# Altium integrated library TI Amplifiers and Linear Operational Amplifier Precision Amplifier Part Two.IntLib: 2300 symbols (part 2 of 81)
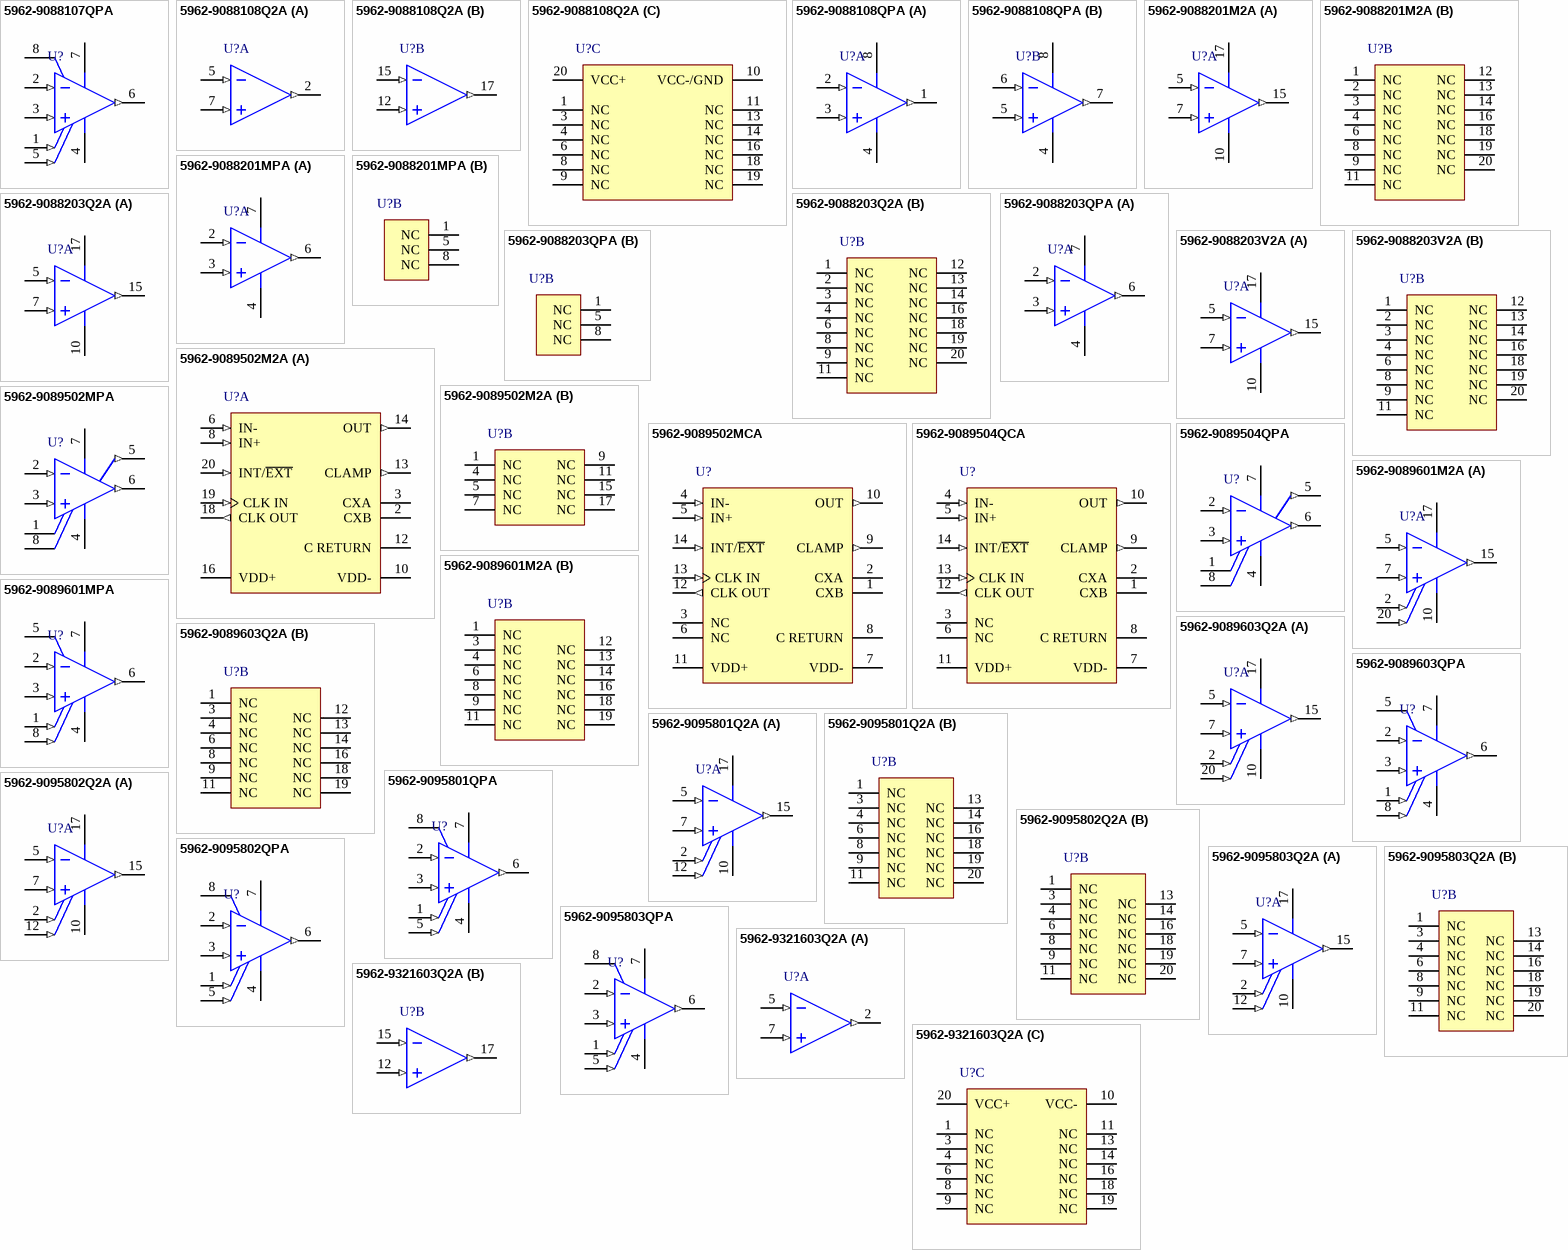
[diagram p137: symbols 5962-9088107QPA to 5962-9321603Q2A]

## 5962-9088201MPA
designator U?
Low Noise Precision Advanced LinCMOS(TM) Single Operational Amplifier, 4.6 to 16 V, -55 to 125 degC, 8-pin DIP (JG8); Manufacturer: Texas Instruments; PartNumber: 5962-9088201MPA; CMRR(Min)(dB): 90; GBW(Typ)(MHz): 1.9; IIB(Max)(pA): 60; Iq per channel(Max)(mA): 1.5; Number of Channels: 1; Offset Drift(Typ)(uV/C): 0.5; Packing: TUBE; Rating: Military; Slew Rate(Typ)(V/us): 2.7; Sub Family: Low Noise Amp (<=10nV/rtHz), Low Offset Voltage Amplifier (<=500uV), Precision Amplifier; Total Supply Voltage(Max)(+5V is 5, +/-5V is 10): 16; Total Supply Voltage(Min)(+5V is 5, +/-5V is 10): 4.6; DatasheetVersion: SLOS175B; PackageVersion: 4040107/C, 08/1996; PackageReference: JG8; PackageDescription: 8-Pin Ceramic, Glass In-Line, Body 9.58 x 6.665 mm, Pitch 2.54 mm; Vio (25C)(Max)(mV): 0.5; Mounting Technology: Through Hole; ComponentLink1Description: Manufacturer URL; ComponentLink1URL: http://www.ti.com/; ComponentLink2Description: Datasheet; ComponentLink2URL: http://www.ti.com/lit/ds/symlink/tlc2201m.pdf; ComponentLink3Description: Package Specification; ComponentLink3URL: http://www.ti.com/litv/pdf/mcer001a
footprint TI-JG8 (DIP, 8-Leads, Body 10.15x7.1mm, Pitch 2.54mm)
part A pins: 2 IN- (in), 3 IN+ (in), 4 VDD-/GND (power), 6 OUT (out), 7 VDD+ (power)
part B pins: 1 NC, 5 NC, 8 NC

## 5962-9088203Q2A
designator U?
Low Noise Precision Advanced LinCMOS(TM) Single Operational Amplifier, 4.6 to 16 V, -55 to 125 degC, 20-pin LCC (FK20); Manufacturer: Texas Instruments; PartNumber: 5962-9088203Q2A; CMRR(Min)(dB): 90; GBW(Typ)(MHz): 1.9; IIB(Max)(pA): 60; Iq per channel(Max)(mA): 1.5; Number of Channels: 1; Offset Drift(Typ)(uV/C): 0.5; Packing: TUBE; Rating: Military; Slew Rate(Typ)(V/us): 2.7; Sub Family: Low Offset Voltage Amplifier (<=500uV), Precision Amplifier; Total Supply Voltage(Max)(+5V is 5, +/-5V is 10): 16; Total Supply Voltage(Min)(+5V is 5, +/-5V is 10): 4.6; Vio (25C)(Max)(mV): 0.2; DatasheetVersion: SLOS175B; PackageVersion: 4040140/D, 01/2011; PackageReference: FK20; PackageDescription: 20-Pin Ceramic, Metal Chip Carrier, Body 8.89 x 8.89 mm, Pitch 1.27 mm; Mounting Technology: Surface Mount; Code_JEDEC: MS-004; ComponentLink1Description: Manufacturer URL; ComponentLink1URL: http://www.ti.com/; ComponentLink2Description: Datasheet; ComponentLink2URL: http://www.ti.com/lit/ds/symlink/tlc2201am.pdf; ComponentLink3Description: Package Specification; ComponentLink3URL: http://www.ti.com/litv/pdf/mlcc006d
footprint TI-FK20_N (Leadless Chip Carrier, 20-Leads, Body 8.9x8.9mm, Pitch 1.27mm, IPC Medium Density)
footprint TI-FK20_L (Leadless Chip Carrier, 20-Leads, Body 8.9x8.9mm, Pitch 1.27mm, IPC High Density)
footprint TI-FK20_M (Leadless Chip Carrier, 20-Leads, Body 8.9x8.9mm, Pitch 1.27mm, IPC Low Density)
part A pins: 5 IN- (in), 7 IN+ (in), 10 VDD-/GND (power), 15 OUT (out), 17 VDD+ (power)
part B pins: 1 NC, 2 NC, 3 NC, 4 NC, 6 NC, 8 NC, 9 NC, 11 NC, 12 NC, 13 NC, 14 NC, 16 NC, 18 NC, 19 NC, 20 NC

## 5962-9088203QPA
designator U?
Low Noise Precision Advanced LinCMOS(TM) Single Operational Amplifier, 4.6 to 16 V, -55 to 125 degC, 8-pin DIP (JG8); Manufacturer: Texas Instruments; PartNumber: 5962-9088203QPA; CMRR(Min)(dB): 90; GBW(Typ)(MHz): 1.9; IIB(Max)(pA): 60; Iq per channel(Max)(mA): 1.5; Number of Channels: 1; Offset Drift(Typ)(uV/C): 0.5; Packing: TUBE; Rating: Military; Slew Rate(Typ)(V/us): 2.7; Sub Family: Low Offset Voltage Amplifier (<=500uV), Precision Amplifier; Total Supply Voltage(Max)(+5V is 5, +/-5V is 10): 16; Total Supply Voltage(Min)(+5V is 5, +/-5V is 10): 4.6; Vio (25C)(Max)(mV): 0.2; DatasheetVersion: SLOS175B; PackageVersion: 4040107/C, 08/1996; PackageReference: JG8; PackageDescription: 8-Pin Ceramic, Glass In-Line, Body 9.58 x 6.665 mm, Pitch 2.54 mm; Mounting Technology: Through Hole; ComponentLink1Description: Manufacturer URL; ComponentLink1URL: http://www.ti.com/; ComponentLink2Description: Datasheet; ComponentLink2URL: http://www.ti.com/lit/ds/symlink/tlc2201am.pdf; ComponentLink3Description: Package Specification; ComponentLink3URL: http://www.ti.com/litv/pdf/mcer001a
footprint TI-JG8 (DIP, 8-Leads, Body 10.15x7.1mm, Pitch 2.54mm)
part A pins: 2 IN- (in), 3 IN+ (in), 4 VDD-/GND (power), 6 OUT (out), 7 VDD+ (power)
part B pins: 1 NC, 5 NC, 8 NC

## 5962-9088203V2A
designator U?
Space Low Noise Precision Advanced LinCMOS(TM) Single Operational Amplifier, 4.6 to 16 V, -55 to 125 degC, 20-pin LCC (FK20); Manufacturer: Texas Instruments; PartNumber: 5962-9088203V2A; CMRR(Min)(dB): 90; GBW(Typ)(MHz): 1.9; IIB(Max)(pA): 500; Iq per channel(Max)(mA): 1.5; Number of Channels: 1; Offset Drift(Typ)(uV/C): 0.5; Packing: BULK; Slew Rate(Typ)(V/us): 2.7; Sub Family: Low Offset Voltage Amplifier (<=500uV), Precision Amplifier; Total Supply Voltage(Max)(+5V is 5, +/-5V is 10): 16; Total Supply Voltage(Min)(+5V is 5, +/-5V is 10): 4.6; Vio (25C)(Max)(mV): 0.2; DatasheetVersion: SLOS710; PackageVersion: 4040140/D, 01/2011; PackageReference: FK20; PackageDescription: 20-Pin Ceramic, Metal Chip Carrier, Body 8.89 x 8.89 mm, Pitch 1.27 mm; Supplier 1: Digi-Key; Supplier Part Number 1: 5962-9088203V2A-ND; Supplier 2: Mouser; Supplier Part Number 2: 595-5962-9088203V2A; Rating: Space; Mounting Technology: Surface Mount; Code_JEDEC: MS-004; ComponentLink1Description: Manufacturer URL; ComponentLink1URL: http://www.ti.com/; ComponentLink2Description: Datasheet; ComponentLink2URL: http://www.ti.com/lit/ds/symlink/tlc2201-sp.pdf; ComponentLink3Description: Package Specification; ComponentLink3URL: http://www.ti.com/litv/pdf/mlcc006d
footprint TI-FK20_N (Leadless Chip Carrier, 20-Leads, Body 8.9x8.9mm, Pitch 1.27mm, IPC Medium Density)
footprint TI-FK20_L (Leadless Chip Carrier, 20-Leads, Body 8.9x8.9mm, Pitch 1.27mm, IPC High Density)
footprint TI-FK20_M (Leadless Chip Carrier, 20-Leads, Body 8.9x8.9mm, Pitch 1.27mm, IPC Low Density)
part A pins: 5 IN- (in), 7 IN+ (in), 10 VDD-/GND (power), 15 OUT (out), 17 VDD+ (power)
part B pins: 1 NC, 2 NC, 3 NC, 4 NC, 6 NC, 8 NC, 9 NC, 11 NC, 12 NC, 13 NC, 14 NC, 16 NC, 18 NC, 19 NC, 20 NC

## 5962-9089502M2A
designator U?
Low Noise Chopper-Stabilized Advanced LinCMOS(TM) Operational Amplifier, 4.6 to 16 V, -55 to 125 degC, 20-pin LCC (FK20); Manufacturer: Texas Instruments; PartNumber: 5962-9089502M2A; CMRR(Min)(dB): 105; GBW(Typ)(MHz): 1.9; IIB(Max)(pA): 60; Iq per channel(Max)(mA): 2.4; Number of Channels: 1; Offset Drift(Typ)(uV/C): 0.01; Packing: TUBE; Rating: Military; Slew Rate(Typ)(V/us): 2; Sub Family: Low Offset Voltage Amplifier (<=500uV), Precision Amplifier; Total Supply Voltage(Max)(+5V is 5, +/-5V is 10): 16; Total Supply Voltage(Min)(+5V is 5, +/-5V is 10): 4.6; Vio (25C)(Max)(mV): 0.02; DatasheetVersion: SLOS020G; PackageVersion: 4040140/D, 01/2011; PackageReference: FK20; PackageDescription: 20-Pin Ceramic, Metal Chip Carrier, Body 8.89 x 8.89 mm, Pitch 1.27 mm; Mounting Technology: Surface Mount; Code_JEDEC: MS-004; ComponentLink1Description: Manufacturer URL; ComponentLink1URL: http://www.ti.com/; ComponentLink2Description: Datasheet; ComponentLink2URL: http://www.ti.com/lit/ds/symlink/tlc2654m.pdf; ComponentLink3Description: Package Specification; ComponentLink3URL: http://www.ti.com/litv/pdf/mlcc006d
footprint TI-FK20_N (Leadless Chip Carrier, 20-Leads, Body 8.9x8.9mm, Pitch 1.27mm, IPC Medium Density)
footprint TI-FK20_L (Leadless Chip Carrier, 20-Leads, Body 8.9x8.9mm, Pitch 1.27mm, IPC High Density)
footprint TI-FK20_M (Leadless Chip Carrier, 20-Leads, Body 8.9x8.9mm, Pitch 1.27mm, IPC Low Density)
part A pins: 2 CXB, 3 CXA, 6 IN- (in), 8 IN+ (in), 10 VDD- (power), 12 C RETURN (power), 13 CLAMP (out), 14 OUT (out), 16 VDD+ (power), 18 CLK OUT (out), 19 CLK IN (in), 20 INT/~{EXT} (in)
part B pins: 1 NC, 4 NC, 5 NC, 7 NC, 9 NC, 11 NC, 15 NC, 17 NC

## 5962-9089502MCA
designator U?
Low Noise Chopper-Stabilized Advanced LinCMOS(TM) Operational Amplifier, 4.6 to 16 V, -55 to 125 degC, 14-pin DIP (J14); Manufacturer: Texas Instruments; PartNumber: 5962-9089502MCA; CMRR(Min)(dB): 105; GBW(Typ)(MHz): 1.9; IIB(Max)(pA): 60; Iq per channel(Max)(mA): 2.4; Number of Channels: 1; Offset Drift(Typ)(uV/C): 0.01; Packing: TUBE; Rating: Military; Slew Rate(Typ)(V/us): 2; Sub Family: Low Offset Voltage Amplifier (<=500uV), Precision Amplifier; Total Supply Voltage(Max)(+5V is 5, +/-5V is 10): 16; Total Supply Voltage(Min)(+5V is 5, +/-5V is 10): 4.6; Vio (25C)(Max)(mV): 0.02; DatasheetVersion: SLOS020G; PackageVersion: 4040083/F, 03/2003; PackageReference: J14; PackageDescription: 14-Pin Ceramic, Glass In-Line, Row Spacing 7.62 mm, Pitch 2.54 mm; Mounting Technology: Through Hole; ComponentLink1Description: Manufacturer URL; ComponentLink1URL: http://www.ti.com/; ComponentLink2Description: Datasheet; ComponentLink2URL: http://www.ti.com/lit/ds/symlink/tlc2654m.pdf; ComponentLink3Description: Package Specification; ComponentLink3URL: http://www.ti.com/litv/pdf/mcer002d
footprint TI-J14 (DIP, 14-Leads, Body 19.94x6.92mm, Row Spacing 7.62 mm, Pitch 2.54mm)
pins: 1 CXB, 2 CXA, 3 NC, 4 IN- (in), 5 IN+ (in), 6 NC, 7 VDD- (power), 8 C RETURN (power), 9 CLAMP (out), 10 OUT (out), 11 VDD+ (power), 12 CLK OUT (out), 13 CLK IN (in), 14 INT/~{EXT} (in)

## 5962-9089502MPA
designator U?
Low Noise Chopper-Stabilized Advanced LinCMOS(TM) Operational Amplifier, 4.6 to 16 V, -55 to 125 degC, 8-pin DIP (JG8); Manufacturer: Texas Instruments; PartNumber: 5962-9089502MPA; CMRR(Min)(dB): 105; GBW(Typ)(MHz): 1.9; IIB(Max)(pA): 60; Iq per channel(Max)(mA): 2.4; Number of Channels: 1; Offset Drift(Typ)(uV/C): 0.01; Packing: TUBE; Rating: Military; Slew Rate(Typ)(V/us): 2; Sub Family: Low Offset Voltage Amplifier (<=500uV), Precision Amplifier; Total Supply Voltage(Max)(+5V is 5, +/-5V is 10): 16; Total Supply Voltage(Min)(+5V is 5, +/-5V is 10): 4.6; Vio (25C)(Max)(mV): 0.02; DatasheetVersion: SLOS020G; PackageVersion: 4040107/C, 08/1996; PackageReference: JG8; PackageDescription: 8-Pin Ceramic, Glass In-Line, Body 9.58 x 6.665 mm, Pitch 2.54 mm; Mounting Technology: Through Hole; ComponentLink1Description: Manufacturer URL; ComponentLink1URL: http://www.ti.com/; ComponentLink2Description: Datasheet; ComponentLink2URL: http://www.ti.com/lit/ds/symlink/tlc2654m.pdf; ComponentLink3Description: Package Specification; ComponentLink3URL: http://www.ti.com/litv/pdf/mcer001a
footprint TI-JG8 (DIP, 8-Leads, Body 10.15x7.1mm, Pitch 2.54mm)
pins: 1 CXA, 2 IN- (in), 3 IN+ (in), 4 VDD- (power), 5 CLAMP (out), 6 OUT (out), 7 VDD+ (power), 8 CXB

## 5962-9089504QCA
designator U?
Low Noise Chopper-Stabilized Advanced LinCMOS(TM) Operational Amplifier, 4.6 to 16 V, -55 to 125 degC, 14-pin DIP (J14); Manufacturer: Texas Instruments; PartNumber: 5962-9089504QCA; CMRR(Min)(dB): 110; GBW(Typ)(MHz): 1.9; IIB(Max)(pA): 60; Iq per channel(Max)(mA): 2.4; Number of Channels: 1; Offset Drift(Typ)(uV/C): 0.01; Packing: TUBE; Rating: Military; Slew Rate(Typ)(V/us): 2; Sub Family: Low Offset Voltage Amplifier (<=500uV), Precision Amplifier; Total Supply Voltage(Max)(+5V is 5, +/-5V is 10): 16; Total Supply Voltage(Min)(+5V is 5, +/-5V is 10): 4.6; DatasheetVersion: SLOS020G; PackageVersion: 4040083/F, 03/2003; PackageReference: J14; PackageDescription: 14-Pin Ceramic, Glass In-Line, Row Spacing 7.62 mm, Pitch 2.54 mm; Vio (25C)(Max)(mV): 0.01; Mounting Technology: Through Hole; ComponentLink1Description: Manufacturer URL; ComponentLink1URL: http://www.ti.com/; ComponentLink2Description: Datasheet; ComponentLink2URL: http://www.ti.com/lit/ds/symlink/tlc2654am.pdf; ComponentLink3Description: Package Specification; ComponentLink3URL: http://www.ti.com/litv/pdf/mcer002d
footprint TI-J14 (DIP, 14-Leads, Body 19.94x6.92mm, Row Spacing 7.62 mm, Pitch 2.54mm)
pins: 1 CXB, 2 CXA, 3 NC, 4 IN- (in), 5 IN+ (in), 6 NC, 7 VDD- (power), 8 C RETURN (power), 9 CLAMP (out), 10 OUT (out), 11 VDD+ (power), 12 CLK OUT (out), 13 CLK IN (in), 14 INT/~{EXT} (in)

## 5962-9089504QPA
designator U?
Low Noise Chopper-Stabilized Advanced LinCMOS(TM) Operational Amplifier, 4.6 to 16 V, -55 to 125 degC, 8-pin DIP (JG8); Manufacturer: Texas Instruments; PartNumber: 5962-9089504QPA; CMRR(Min)(dB): 110; GBW(Typ)(MHz): 1.9; IIB(Max)(pA): 60; Iq per channel(Max)(mA): 2.4; Number of Channels: 1; Offset Drift(Typ)(uV/C): 0.01; Packing: TUBE; Rating: Military; Slew Rate(Typ)(V/us): 2; Sub Family: Low Offset Voltage Amplifier (<=500uV), Precision Amplifier; Total Supply Voltage(Max)(+5V is 5, +/-5V is 10): 16; Total Supply Voltage(Min)(+5V is 5, +/-5V is 10): 4.6; DatasheetVersion: SLOS020G; PackageVersion: 4040107/C, 08/1996; PackageReference: JG8; PackageDescription: 8-Pin Ceramic, Glass In-Line, Body 9.58 x 6.665 mm, Pitch 2.54 mm; Vio (25C)(Max)(mV): 0.01; Mounting Technology: Through Hole; ComponentLink1Description: Manufacturer URL; ComponentLink1URL: http://www.ti.com/; ComponentLink2Description: Datasheet; ComponentLink2URL: http://www.ti.com/lit/ds/symlink/tlc2654am.pdf; ComponentLink3Description: Package Specification; ComponentLink3URL: http://www.ti.com/litv/pdf/mcer001a
footprint TI-JG8 (DIP, 8-Leads, Body 10.15x7.1mm, Pitch 2.54mm)
pins: 1 CXA, 2 IN- (in), 3 IN+ (in), 4 VDD- (power), 5 CLAMP (out), 6 OUT (out), 7 VDD+ (power), 8 CXB

## 5962-9089601M2A
designator U?
Low-Noise, High-Speed, Precision Single Operational Amplifier, 8 to 38 V, -55 to 125 degC, 20-pin LCC (FK20); Manufacturer: Texas Instruments; PartNumber: 5962-9089601M2A; CMRR(Min)(dB): 100; GBW(Typ)(MHz): 13; IIB(Max)(pA): 90000; Iq per channel(Max)(mA): 5.3; Number of Channels: 1; Offset Drift(Typ)(uV/C): 0.4; Packing: TUBE; Rating: Military; Slew Rate(Typ)(V/us): 2.8; Sub Family: Precision Amplifier; Total Supply Voltage(Max)(+5V is 5, +/-5V is 10): 38; Total Supply Voltage(Min)(+5V is 5, +/-5V is 10): 8; Vio (25C)(Max)(mV): 0.1; DatasheetVersion: SLOS192C; PackageVersion: 4040140/D, 01/2011; PackageReference: FK20; PackageDescription: 20-Pin Ceramic, Metal Chip Carrier, Body 8.89 x 8.89 mm, Pitch 1.27 mm; Mounting Technology: Surface Mount; Code_JEDEC: MS-004; ComponentLink1Description: Manufacturer URL; ComponentLink1URL: http://www.ti.com/; ComponentLink2Description: Datasheet; ComponentLink2URL: http://www.ti.com/lit/ds/symlink/tle2027m.pdf; ComponentLink3Description: Package Specification; ComponentLink3URL: http://www.ti.com/litv/pdf/mlcc006d
footprint TI-FK20_N (Leadless Chip Carrier, 20-Leads, Body 8.9x8.9mm, Pitch 1.27mm, IPC Medium Density)
footprint TI-FK20_L (Leadless Chip Carrier, 20-Leads, Body 8.9x8.9mm, Pitch 1.27mm, IPC High Density)
footprint TI-FK20_M (Leadless Chip Carrier, 20-Leads, Body 8.9x8.9mm, Pitch 1.27mm, IPC Low Density)
part A pins: 2 OFFSET N1 (in), 5 IN- (in), 7 IN+ (in), 10 VCC- (power), 15 OUT (out), 17 VCC+ (power), 20 OFFSET N2 (in)
part B pins: 1 NC, 3 NC, 4 NC, 6 NC, 8 NC, 9 NC, 11 NC, 12 NC, 13 NC, 14 NC, 16 NC, 18 NC, 19 NC

## 5962-9089601MPA
designator U?
Low-Noise, High-Speed, Precision Single Operational Amplifier, 8 to 38 V, -55 to 125 degC, 8-pin DIP (JG8); Manufacturer: Texas Instruments; PartNumber: 5962-9089601MPA; CMRR(Min)(dB): 100; GBW(Typ)(MHz): 13; IIB(Max)(pA): 90000; Iq per channel(Max)(mA): 5.3; Number of Channels: 1; Offset Drift(Typ)(uV/C): 0.4; Packing: TUBE; Rating: Military; Slew Rate(Typ)(V/us): 2.8; Sub Family: Precision Amplifier; Total Supply Voltage(Max)(+5V is 5, +/-5V is 10): 38; Total Supply Voltage(Min)(+5V is 5, +/-5V is 10): 8; Vio (25C)(Max)(mV): 0.1; DatasheetVersion: SLOS192C; PackageVersion: 4040107/C, 08/1996; PackageReference: JG8; PackageDescription: 8-Pin Ceramic, Glass In-Line, Body 9.58 x 6.665 mm, Pitch 2.54 mm; Mounting Technology: Through Hole; ComponentLink1Description: Manufacturer URL; ComponentLink1URL: http://www.ti.com/; ComponentLink2Description: Datasheet; ComponentLink2URL: http://www.ti.com/lit/ds/symlink/tle2027m.pdf; ComponentLink3Description: Package Specification; ComponentLink3URL: http://www.ti.com/litv/pdf/mcer001a
footprint TI-JG8 (DIP, 8-Leads, Body 10.15x7.1mm, Pitch 2.54mm)
pins: 1 OFFSET N1 (in), 2 IN- (in), 3 IN+ (in), 4 VCC- (power), 5 NC, 6 OUT (out), 7 VCC+ (power), 8 OFFSET N2 (in)

## 5962-9089603Q2A
designator U?
Low-Noise, High-Speed, Precision Single Operational Amplifier, 8 to 38 V, -55 to 125 degC, 20-pin LCC (FK20); Manufacturer: Texas Instruments; PartNumber: 5962-9089603Q2A; CMRR(Min)(dB): 117; GBW(Typ)(MHz): 13; IIB(Max)(pA): 90000; Iq per channel(Max)(mA): 5.3; Number of Channels: 1; Offset Drift(Typ)(uV/C): 0.2; Packing: TUBE; Rating: Military; Slew Rate(Typ)(V/us): 2.8; Sub Family: Precision Amplifier; Total Supply Voltage(Max)(+5V is 5, +/-5V is 10): 38; Total Supply Voltage(Min)(+5V is 5, +/-5V is 10): 8; Vio (25C)(Max)(mV): 0.025; DatasheetVersion: SLOS192C; PackageVersion: 4040140/D, 01/2011; PackageReference: FK20; PackageDescription: 20-Pin Ceramic, Metal Chip Carrier, Body 8.89 x 8.89 mm, Pitch 1.27 mm; Mounting Technology: Surface Mount; Code_JEDEC: MS-004; ComponentLink1Description: Manufacturer URL; ComponentLink1URL: http://www.ti.com/; ComponentLink2Description: Datasheet; ComponentLink2URL: http://www.ti.com/lit/ds/symlink/tle2027am.pdf; ComponentLink3Description: Package Specification; ComponentLink3URL: http://www.ti.com/litv/pdf/mlcc006d
footprint TI-FK20_N (Leadless Chip Carrier, 20-Leads, Body 8.9x8.9mm, Pitch 1.27mm, IPC Medium Density)
footprint TI-FK20_L (Leadless Chip Carrier, 20-Leads, Body 8.9x8.9mm, Pitch 1.27mm, IPC High Density)
footprint TI-FK20_M (Leadless Chip Carrier, 20-Leads, Body 8.9x8.9mm, Pitch 1.27mm, IPC Low Density)
part A pins: 2 OFFSET N1 (in), 5 IN- (in), 7 IN+ (in), 10 VCC- (power), 15 OUT (out), 17 VCC+ (power), 20 OFFSET N2 (in)
part B pins: 1 NC, 3 NC, 4 NC, 6 NC, 8 NC, 9 NC, 11 NC, 12 NC, 13 NC, 14 NC, 16 NC, 18 NC, 19 NC

## 5962-9089603QPA
designator U?
Low-Noise, High-Speed, Precision Single Operational Amplifier, 8 to 38 V, -55 to 125 degC, 8-pin DIP (JG8); Manufacturer: Texas Instruments; PartNumber: 5962-9089603QPA; CMRR(Min)(dB): 117; GBW(Typ)(MHz): 13; IIB(Max)(pA): 90000; Iq per channel(Max)(mA): 5.3; Number of Channels: 1; Offset Drift(Typ)(uV/C): 0.2; Packing: TUBE; Rating: Military; Slew Rate(Typ)(V/us): 2.8; Sub Family: Precision Amplifier; Total Supply Voltage(Max)(+5V is 5, +/-5V is 10): 38; Total Supply Voltage(Min)(+5V is 5, +/-5V is 10): 8; Vio (25C)(Max)(mV): 0.025; DatasheetVersion: SLOS192C; PackageVersion: 4040107/C, 08/1996; PackageReference: JG8; PackageDescription: 8-Pin Ceramic, Glass In-Line, Body 9.58 x 6.665 mm, Pitch 2.54 mm; Mounting Technology: Through Hole; ComponentLink1Description: Manufacturer URL; ComponentLink1URL: http://www.ti.com/; ComponentLink2Description: Datasheet; ComponentLink2URL: http://www.ti.com/lit/ds/symlink/tle2027am.pdf; ComponentLink3Description: Package Specification; ComponentLink3URL: http://www.ti.com/litv/pdf/mcer001a
footprint TI-JG8 (DIP, 8-Leads, Body 10.15x7.1mm, Pitch 2.54mm)
pins: 1 OFFSET N1 (in), 2 IN- (in), 3 IN+ (in), 4 VCC- (power), 5 NC, 6 OUT (out), 7 VCC+ (power), 8 OFFSET N2 (in)

## 5962-9095801Q2A
designator U?
JFET-Input Low Power High Drive Decompensated Single Operational Amplifier, 7 to 36 V, -55 to 125 degC, 20-pin LCC (FK20); Manufacturer: Texas Instruments; PartNumber: 5962-9095801Q2A; CMRR(Min)(dB): 65; GBW(Typ)(MHz): 5.8; IIB(Max)(pA): 30000; Iq per channel(Max)(mA): 0.325; Number of Channels: 1; Offset Drift(Typ)(uV/C): 6; Packing: TUBE; Rating: Military; Slew Rate(Typ)(V/us): 10; Sub Family: High Output Current Amplifier (>=50mA), Precision Amplifier; Total Supply Voltage(Max)(+5V is 5, +/-5V is 10): 36; Total Supply Voltage(Min)(+5V is 5, +/-5V is 10): 7; Vio (25C)(Max)(mV): 3.1; DatasheetVersion: SLOS049D; PackageVersion: 4040140/D, 01/2011; PackageReference: FK20; PackageDescription: 20-Pin Ceramic, Metal Chip Carrier, Body 8.89 x 8.89 mm, Pitch 1.27 mm; Mounting Technology: Surface Mount; Code_JEDEC: MS-004; ComponentLink1Description: Manufacturer URL; ComponentLink1URL: http://www.ti.com/; ComponentLink2Description: Datasheet; ComponentLink2URL: http://www.ti.com/lit/ds/symlink/tle2161m.pdf; ComponentLink3Description: Package Specification; ComponentLink3URL: http://www.ti.com/litv/pdf/mlcc006d
footprint TI-FK20_N (Leadless Chip Carrier, 20-Leads, Body 8.9x8.9mm, Pitch 1.27mm, IPC Medium Density)
footprint TI-FK20_L (Leadless Chip Carrier, 20-Leads, Body 8.9x8.9mm, Pitch 1.27mm, IPC High Density)
footprint TI-FK20_M (Leadless Chip Carrier, 20-Leads, Body 8.9x8.9mm, Pitch 1.27mm, IPC Low Density)
part A pins: 2 N1 (in), 5 IN- (in), 7 IN+ (in), 10 VCC- (power), 12 N2 (in), 15 OUT (out), 17 VCC+ (power)
part B pins: 1 NC, 3 NC, 4 NC, 6 NC, 8 NC, 9 NC, 11 NC, 13 NC, 14 NC, 16 NC, 18 NC, 19 NC, 20 NC

## 5962-9095801QPA
designator U?
JFET-Input Low Power High Drive Decompensated Single Operational Amplifier, 7 to 36 V, -55 to 125 degC, 8-pin DIP (JG8); Manufacturer: Texas Instruments; PartNumber: 5962-9095801QPA; CMRR(Min)(dB): 65; GBW(Typ)(MHz): 5.8; IIB(Max)(pA): 30000; Iq per channel(Max)(mA): 0.325; Number of Channels: 1; Offset Drift(Typ)(uV/C): 6; Packing: TUBE; Rating: Military; Slew Rate(Typ)(V/us): 10; Sub Family: High Output Current Amplifier (>=50mA), Precision Amplifier; Total Supply Voltage(Max)(+5V is 5, +/-5V is 10): 36; Total Supply Voltage(Min)(+5V is 5, +/-5V is 10): 7; Vio (25C)(Max)(mV): 3.1; DatasheetVersion: SLOS049D; PackageVersion: 4040107/C, 08/1996; PackageReference: JG8; PackageDescription: 8-Pin Ceramic, Glass In-Line, Body 9.58 x 6.665 mm, Pitch 2.54 mm; Mounting Technology: Through Hole; ComponentLink1Description: Manufacturer URL; ComponentLink1URL: http://www.ti.com/; ComponentLink2Description: Datasheet; ComponentLink2URL: http://www.ti.com/lit/ds/symlink/tle2161m.pdf; ComponentLink3Description: Package Specification; ComponentLink3URL: http://www.ti.com/litv/pdf/mcer001a
footprint TI-JG8 (DIP, 8-Leads, Body 10.15x7.1mm, Pitch 2.54mm)
pins: 1 OFFSET N1 (in), 2 IN- (in), 3 IN+ (in), 4 VCC- (power), 5 OFFSET N2 (in), 6 OUT (out), 7 VCC+ (power), 8 NC

## 5962-9095802Q2A
designator U?
Excalibur JFET-Input High-Output-Drive uPower Operational Amplifier, 7 to 36 V, -55 to 125 degC, 20-pin LCC (FK20); Manufacturer: Texas Instruments; PartNumber: 5962-9095802Q2A; CMRR(Min)(dB): 65; GBW(Typ)(MHz): 5.8; IIB(Max)(pA): 30000; Iq per channel(Max)(mA): 0.325; Number of Channels: 1; Offset Drift(Typ)(uV/C): 6; Packing: TUBE; Rating: Military; Slew Rate(Typ)(V/us): 10; Sub Family: High Output Current Amplifier (>=50mA), Precision Amplifier; Total Supply Voltage(Max)(+5V is 5, +/-5V is 10): 36; Total Supply Voltage(Min)(+5V is 5, +/-5V is 10): 7; Vio (25C)(Max)(mV): 2.6; DatasheetVersion: SLOS049D; PackageVersion: 4040140/D, 01/2011; PackageReference: FK20; PackageDescription: 20-Pin Ceramic, Metal Chip Carrier, Body 8.89 x 8.89 mm, Pitch 1.27 mm; Mounting Technology: Surface Mount; Code_JEDEC: MS-004; ComponentLink1Description: Manufacturer URL; ComponentLink1URL: http://www.ti.com/; ComponentLink2Description: Datasheet; ComponentLink2URL: http://www.ti.com/lit/ds/symlink/tle2161am.pdf; ComponentLink3Description: Package Specification; ComponentLink3URL: http://www.ti.com/litv/pdf/mlcc006d
footprint TI-FK20_N (Leadless Chip Carrier, 20-Leads, Body 8.9x8.9mm, Pitch 1.27mm, IPC Medium Density)
footprint TI-FK20_L (Leadless Chip Carrier, 20-Leads, Body 8.9x8.9mm, Pitch 1.27mm, IPC High Density)
footprint TI-FK20_M (Leadless Chip Carrier, 20-Leads, Body 8.9x8.9mm, Pitch 1.27mm, IPC Low Density)
part A pins: 2 N1 (in), 5 IN- (in), 7 IN+ (in), 10 VCC- (power), 12 N2 (in), 15 OUT (out), 17 VCC+ (power)
part B pins: 1 NC, 3 NC, 4 NC, 6 NC, 8 NC, 9 NC, 11 NC, 13 NC, 14 NC, 16 NC, 18 NC, 19 NC, 20 NC

## 5962-9095802QPA
designator U?
Excalibur JFET-Input High-Output-Drive uPower Operational Amplifier, 7 to 36 V, -55 to 125 degC, 8-pin DIP (JG8); Manufacturer: Texas Instruments; PartNumber: 5962-9095802QPA; CMRR(Min)(dB): 65; GBW(Typ)(MHz): 5.8; IIB(Max)(pA): 30000; Iq per channel(Max)(mA): 0.325; Number of Channels: 1; Offset Drift(Typ)(uV/C): 6; Packing: TUBE; Rating: Military; Slew Rate(Typ)(V/us): 10; Sub Family: High Output Current Amplifier (>=50mA), Precision Amplifier; Total Supply Voltage(Max)(+5V is 5, +/-5V is 10): 36; Total Supply Voltage(Min)(+5V is 5, +/-5V is 10): 7; Vio (25C)(Max)(mV): 2.6; DatasheetVersion: SLOS049D; PackageVersion: 4040107/C, 08/1996; PackageReference: JG8; PackageDescription: 8-Pin Ceramic, Glass In-Line, Body 9.58 x 6.665 mm, Pitch 2.54 mm; Mounting Technology: Through Hole; ComponentLink1Description: Manufacturer URL; ComponentLink1URL: http://www.ti.com/; ComponentLink2Description: Datasheet; ComponentLink2URL: http://www.ti.com/lit/ds/symlink/tle2161am.pdf; ComponentLink3Description: Package Specification; ComponentLink3URL: http://www.ti.com/litv/pdf/mcer001a
footprint TI-JG8 (DIP, 8-Leads, Body 10.15x7.1mm, Pitch 2.54mm)
pins: 1 OFFSET N1 (in), 2 IN- (in), 3 IN+ (in), 4 VCC- (power), 5 OFFSET N2 (in), 6 OUT (out), 7 VCC+ (power), 8 NC

## 5962-9095803Q2A
designator U?
JFET-Input Low Power High Drive Decompensated Single Operational Amplifier, 7 to 36 V, -55 to 125 degC, 20-pin LCC (FK20); Manufacturer: Texas Instruments; PartNumber: 5962-9095803Q2A; CMRR(Min)(dB): 65; GBW(Typ)(MHz): 5.8; IIB(Max)(pA): 30000; Iq per channel(Max)(mA): 0.325; Number of Channels: 1; Offset Drift(Typ)(uV/C): 6; Packing: TUBE; Rating: Military; Slew Rate(Typ)(V/us): 10; Sub Family: High Output Current Amplifier (>=50mA), Precision Amplifier; Total Supply Voltage(Max)(+5V is 5, +/-5V is 10): 36; Total Supply Voltage(Min)(+5V is 5, +/-5V is 10): 7; Vio (25C)(Max)(mV): 1.9; DatasheetVersion: SLOS049D; PackageVersion: 4040140/D, 01/2011; PackageReference: FK20; PackageDescription: 20-Pin Ceramic, Metal Chip Carrier, Body 8.89 x 8.89 mm, Pitch 1.27 mm; Mounting Technology: Surface Mount; Code_JEDEC: MS-004; ComponentLink1Description: Manufacturer URL; ComponentLink1URL: http://www.ti.com/; ComponentLink2Description: Datasheet; ComponentLink2URL: http://www.ti.com/lit/ds/symlink/tle2161bm.pdf; ComponentLink3Description: Package Specification; ComponentLink3URL: http://www.ti.com/litv/pdf/mlcc006d
footprint TI-FK20_N (Leadless Chip Carrier, 20-Leads, Body 8.9x8.9mm, Pitch 1.27mm, IPC Medium Density)
footprint TI-FK20_L (Leadless Chip Carrier, 20-Leads, Body 8.9x8.9mm, Pitch 1.27mm, IPC High Density)
footprint TI-FK20_M (Leadless Chip Carrier, 20-Leads, Body 8.9x8.9mm, Pitch 1.27mm, IPC Low Density)
part A pins: 2 N1 (in), 5 IN- (in), 7 IN+ (in), 10 VCC- (power), 12 N2 (in), 15 OUT (out), 17 VCC+ (power)
part B pins: 1 NC, 3 NC, 4 NC, 6 NC, 8 NC, 9 NC, 11 NC, 13 NC, 14 NC, 16 NC, 18 NC, 19 NC, 20 NC

## 5962-9095803QPA
designator U?
JFET-Input Low Power High Drive Decompensated Single Operational Amplifier, 7 to 36 V, -55 to 125 degC, 8-pin DIP (JG8); Manufacturer: Texas Instruments; PartNumber: 5962-9095803QPA; CMRR(Min)(dB): 65; GBW(Typ)(MHz): 5.8; IIB(Max)(pA): 30000; Iq per channel(Max)(mA): 0.325; Number of Channels: 1; Offset Drift(Typ)(uV/C): 6; Packing: TUBE; Rating: Military; Slew Rate(Typ)(V/us): 10; Sub Family: High Output Current Amplifier (>=50mA), Precision Amplifier; Total Supply Voltage(Max)(+5V is 5, +/-5V is 10): 36; Total Supply Voltage(Min)(+5V is 5, +/-5V is 10): 7; Vio (25C)(Max)(mV): 1.9; DatasheetVersion: SLOS049D; PackageVersion: 4040107/C, 08/1996; PackageReference: JG8; PackageDescription: 8-Pin Ceramic, Glass In-Line, Body 9.58 x 6.665 mm, Pitch 2.54 mm; Mounting Technology: Through Hole; ComponentLink1Description: Manufacturer URL; ComponentLink1URL: http://www.ti.com/; ComponentLink2Description: Datasheet; ComponentLink2URL: http://www.ti.com/lit/ds/symlink/tle2161bm.pdf; ComponentLink3Description: Package Specification; ComponentLink3URL: http://www.ti.com/litv/pdf/mcer001a
footprint TI-JG8 (DIP, 8-Leads, Body 10.15x7.1mm, Pitch 2.54mm)
pins: 1 OFFSET N1 (in), 2 IN- (in), 3 IN+ (in), 4 VCC- (power), 5 OFFSET N2 (in), 6 OUT (out), 7 VCC+ (power), 8 NC

## 5962-9321603Q2A
designator U?
High Speed High Drive Precision Dual Operational Amplifier, 4 to 44 V, -55 to 125 degC, 20-pin LCC (FK20); Manufacturer: Texas Instruments; PartNumber: 5962-9321603Q2A; CMRR(Min)(dB): 85; GBW(Typ)(MHz): 5.8; IIB(Max)(pA): 2000000; Iq per channel(Max)(mA): 4.4; Number of Channels: 2; Offset Drift(Typ)(uV/C): 1.7; Packing: TUBE; Rating: Military; Slew Rate(Typ)(V/us): 45; Sub Family: High Output Current Amplifier (>=50mA), High Supply Voltage Amplifier (>=30V), Precision Amplifier; Total Supply Voltage(Max)(+5V is 5, +/-5V is 10): 44; Total Supply Voltage(Min)(+5V is 5, +/-5V is 10): 4; Vio (25C)(Max)(mV): 1.9; DatasheetVersion: SLOS183D; PackageVersion: 4040140/D, 01/2011; PackageReference: FK20; PackageDescription: 20-Pin Ceramic, Metal Chip Carrier, Body 8.89 x 8.89 mm, Pitch 1.27 mm; Mounting Technology: Surface Mount; Code_JEDEC: MS-004; ComponentLink1Description: Manufacturer URL; ComponentLink1URL: http://www.ti.com/; ComponentLink2Description: Datasheet; ComponentLink2URL: http://www.ti.com/lit/ds/symlink/tle2142m.pdf; ComponentLink3Description: Package Specification; ComponentLink3URL: http://www.ti.com/litv/pdf/mlcc006d
footprint TI-FK20_N (Leadless Chip Carrier, 20-Leads, Body 8.9x8.9mm, Pitch 1.27mm, IPC Medium Density)
footprint TI-FK20_L (Leadless Chip Carrier, 20-Leads, Body 8.9x8.9mm, Pitch 1.27mm, IPC High Density)
footprint TI-FK20_M (Leadless Chip Carrier, 20-Leads, Body 8.9x8.9mm, Pitch 1.27mm, IPC Low Density)
part A pins: 2 OUT1 (out), 5 IN1- (in), 7 IN1+ (in)
part B pins: 12 IN2+ (in), 15 IN2- (in), 17 OUT2 (out)
part C pins: 1 NC, 3 NC, 4 NC, 6 NC, 8 NC, 9 NC, 10 VCC- (power), 11 NC, 13 NC, 14 NC, 16 NC, 18 NC, 19 NC, 20 VCC+ (power)

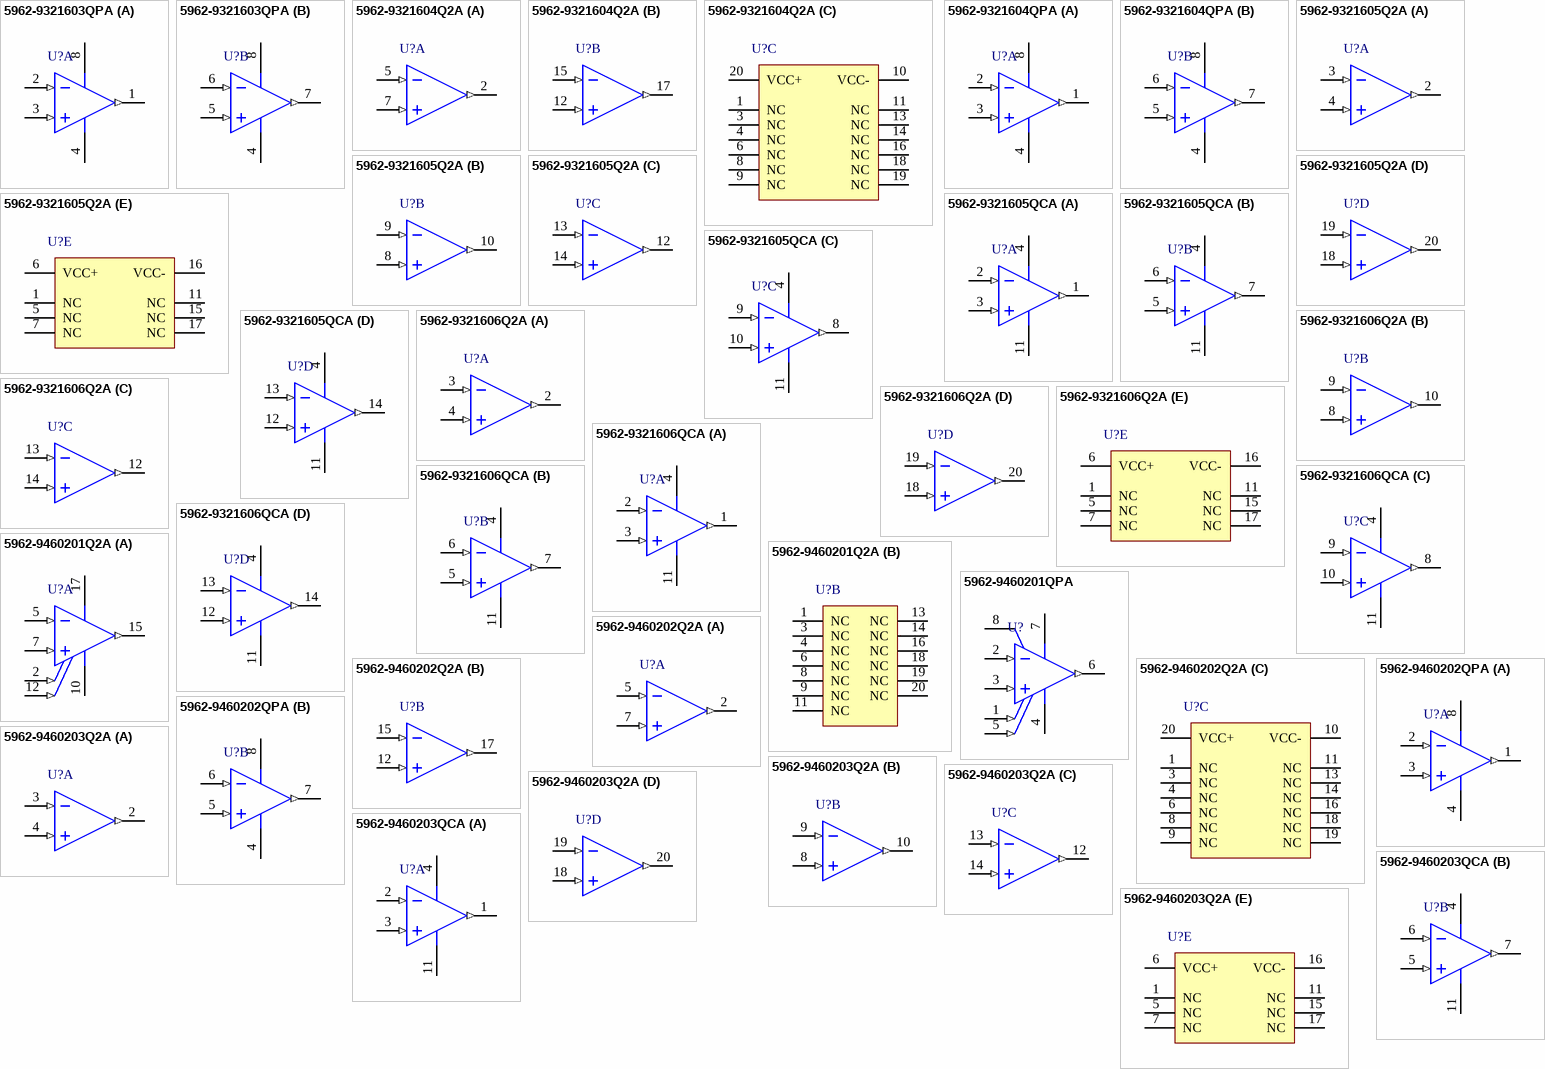
[diagram p3: symbols 5962-9321603QPA to 5962-9460203QCA]

## 5962-9321603QPA
designator U?
High Speed High Drive Precision Dual Operational Amplifier, 4 to 44 V, -55 to 125 degC, 8-pin DIP (JG8); Manufacturer: Texas Instruments; PartNumber: 5962-9321603QPA; CMRR(Min)(dB): 85; GBW(Typ)(MHz): 5.8; IIB(Max)(pA): 2000000; Iq per channel(Max)(mA): 4.4; Number of Channels: 2; Offset Drift(Typ)(uV/C): 1.7; Packing: TUBE; Rating: Military; Slew Rate(Typ)(V/us): 45; Sub Family: High Output Current Amplifier (>=50mA), High Supply Voltage Amplifier (>=30V), Precision Amplifier; Total Supply Voltage(Max)(+5V is 5, +/-5V is 10): 44; Total Supply Voltage(Min)(+5V is 5, +/-5V is 10): 4; Vio (25C)(Max)(mV): 1.9; DatasheetVersion: SLOS183D; PackageVersion: 4040107/C, 08/1996; PackageReference: JG8; PackageDescription: 8-Pin Ceramic, Glass In-Line, Body 9.58 x 6.665 mm, Pitch 2.54 mm; Mounting Technology: Through Hole; ComponentLink1Description: Manufacturer URL; ComponentLink1URL: http://www.ti.com/; ComponentLink2Description: Datasheet; ComponentLink2URL: http://www.ti.com/lit/ds/symlink/tle2142m.pdf; ComponentLink3Description: Package Specification; ComponentLink3URL: http://www.ti.com/litv/pdf/mcer001a
footprint TI-JG8 (DIP, 8-Leads, Body 10.15x7.1mm, Pitch 2.54mm)
pins on every part: 4 VCC- (power), 8 VCC+ (power)
part A pins: 1 OUT1 (out), 2 IN1- (in), 3 IN1+ (in)
part B pins: 5 IN2+ (in), 6 IN2- (in), 7 OUT2 (out)

## 5962-9321604Q2A
designator U?
High Speed High Drive Precision Dual Operational Amplifier, 4 to 44 V, -55 to 125 degC, 20-pin LCC (FK20); Manufacturer: Texas Instruments; PartNumber: 5962-9321604Q2A; CMRR(Min)(dB): 85; GBW(Typ)(MHz): 5.8; IIB(Max)(pA): 2000000; Iq per channel(Max)(mA): 4.4; Number of Channels: 2; Offset Drift(Typ)(uV/C): 1.7; Packing: TUBE; Rating: Military; Slew Rate(Typ)(V/us): 45; Sub Family: High Output Current Amplifier (>=50mA), High Supply Voltage Amplifier (>=30V), Precision Amplifier; Total Supply Voltage(Max)(+5V is 5, +/-5V is 10): 44; Total Supply Voltage(Min)(+5V is 5, +/-5V is 10): 4; Vio (25C)(Max)(mV): 1.5; DatasheetVersion: SLOS183D; PackageVersion: 4040140/D, 01/2011; PackageReference: FK20; PackageDescription: 20-Pin Ceramic, Metal Chip Carrier, Body 8.89 x 8.89 mm, Pitch 1.27 mm; Mounting Technology: Surface Mount; Code_JEDEC: MS-004; ComponentLink1Description: Manufacturer URL; ComponentLink1URL: http://www.ti.com/; ComponentLink2Description: Datasheet; ComponentLink2URL: http://www.ti.com/lit/ds/symlink/tle2142am.pdf; ComponentLink3Description: Package Specification; ComponentLink3URL: http://www.ti.com/litv/pdf/mlcc006d
footprint TI-FK20_N (Leadless Chip Carrier, 20-Leads, Body 8.9x8.9mm, Pitch 1.27mm, IPC Medium Density)
footprint TI-FK20_L (Leadless Chip Carrier, 20-Leads, Body 8.9x8.9mm, Pitch 1.27mm, IPC High Density)
footprint TI-FK20_M (Leadless Chip Carrier, 20-Leads, Body 8.9x8.9mm, Pitch 1.27mm, IPC Low Density)
part A pins: 2 OUT1 (out), 5 IN1- (in), 7 IN1+ (in)
part B pins: 12 IN2+ (in), 15 IN2- (in), 17 OUT2 (out)
part C pins: 1 NC, 3 NC, 4 NC, 6 NC, 8 NC, 9 NC, 10 VCC- (power), 11 NC, 13 NC, 14 NC, 16 NC, 18 NC, 19 NC, 20 VCC+ (power)

## 5962-9321604QPA
designator U?
High Speed High Drive Precision Dual Operational Amplifier, 4 to 44 V, -55 to 125 degC, 8-pin DIP (JG8); Manufacturer: Texas Instruments; PartNumber: 5962-9321604QPA; CMRR(Min)(dB): 85; GBW(Typ)(MHz): 5.8; IIB(Max)(pA): 2000000; Iq per channel(Max)(mA): 4.4; Number of Channels: 2; Offset Drift(Typ)(uV/C): 1.7; Packing: TUBE; Rating: Military; Slew Rate(Typ)(V/us): 45; Sub Family: High Output Current Amplifier (>=50mA), High Supply Voltage Amplifier (>=30V), Precision Amplifier; Total Supply Voltage(Max)(+5V is 5, +/-5V is 10): 44; Total Supply Voltage(Min)(+5V is 5, +/-5V is 10): 4; Vio (25C)(Max)(mV): 1.5; DatasheetVersion: SLOS183D; PackageVersion: 4040107/C, 08/1996; PackageReference: JG8; PackageDescription: 8-Pin Ceramic, Glass In-Line, Body 9.58 x 6.665 mm, Pitch 2.54 mm; Mounting Technology: Through Hole; ComponentLink1Description: Manufacturer URL; ComponentLink1URL: http://www.ti.com/; ComponentLink2Description: Datasheet; ComponentLink2URL: http://www.ti.com/lit/ds/symlink/tle2142am.pdf; ComponentLink3Description: Package Specification; ComponentLink3URL: http://www.ti.com/litv/pdf/mcer001a
footprint TI-JG8 (DIP, 8-Leads, Body 10.15x7.1mm, Pitch 2.54mm)
pins on every part: 4 VCC- (power), 8 VCC+ (power)
part A pins: 1 OUT1 (out), 2 IN1- (in), 3 IN1+ (in)
part B pins: 5 IN2+ (in), 6 IN2- (in), 7 OUT2 (out)

## 5962-9321605Q2A
designator U?
High Speed High Drive Precision Quad Operational Amplifier, 4 to 44 V, -55 to 125 degC, 20-pin LCC (FK20); Manufacturer: Texas Instruments; PartNumber: 5962-9321605Q2A; CMRR(Min)(dB): 85; GBW(Typ)(MHz): 5.8; IIB(Max)(pA): 2000000; Iq per channel(Max)(mA): 4.4; Number of Channels: 4; Offset Drift(Typ)(uV/C): 1.7; Packing: TUBE; Rating: Military; Slew Rate(Typ)(V/us): 45; Sub Family: High Output Current Amplifier (>=50mA), Precision Amplifier; Total Supply Voltage(Max)(+5V is 5, +/-5V is 10): 44; Vio (25C)(Max)(mV): 3.8; DatasheetVersion: SLOS183D; PackageVersion: 4040140/D, 01/2011; PackageReference: FK20; PackageDescription: 20-Pin Ceramic, Metal Chip Carrier, Body 8.89 x 8.89 mm, Pitch 1.27 mm; Total Supply Voltage(Min)(+5V is 5, +/-5V is 10): 4; Mounting Technology: Surface Mount; Code_JEDEC: MS-004; ComponentLink1Description: Manufacturer URL; ComponentLink1URL: http://www.ti.com/; ComponentLink2Description: Datasheet; ComponentLink2URL: http://www.ti.com/lit/ds/symlink/tle2144m.pdf; ComponentLink3Description: Package Specification; ComponentLink3URL: http://www.ti.com/litv/pdf/mlcc006d
footprint TI-FK20_N (Leadless Chip Carrier, 20-Leads, Body 8.9x8.9mm, Pitch 1.27mm, IPC Medium Density)
footprint TI-FK20_L (Leadless Chip Carrier, 20-Leads, Body 8.9x8.9mm, Pitch 1.27mm, IPC High Density)
footprint TI-FK20_M (Leadless Chip Carrier, 20-Leads, Body 8.9x8.9mm, Pitch 1.27mm, IPC Low Density)
part A pins: 2 OUT1 (out), 3 IN1- (in), 4 IN1+ (in)
part B pins: 8 IN2+ (in), 9 IN2- (in), 10 OUT2 (out)
part C pins: 12 OUT3 (out), 13 IN3- (in), 14 IN3+ (in)
part D pins: 18 IN4+ (in), 19 IN4- (in), 20 OUT4 (out)
part E pins: 1 NC, 5 NC, 6 VCC+ (power), 7 NC, 11 NC, 15 NC, 16 VCC- (power), 17 NC

## 5962-9321605QCA
designator U?
High Speed High Drive Precision Quad Operational Amplifier, 4 to 44 V, -55 to 125 degC, 14-pin DIP (J14); Manufacturer: Texas Instruments; PartNumber: 5962-9321605QCA; CMRR(Min)(dB): 85; GBW(Typ)(MHz): 5.8; IIB(Max)(pA): 2000000; Iq per channel(Max)(mA): 4.4; Number of Channels: 4; Offset Drift(Typ)(uV/C): 1.7; Packing: TUBE; Rating: Military; Slew Rate(Typ)(V/us): 45; Sub Family: High Output Current Amplifier (>=50mA), Precision Amplifier; Total Supply Voltage(Max)(+5V is 5, +/-5V is 10): 44; Vio (25C)(Max)(mV): 3.8; DatasheetVersion: SLOS183D; PackageVersion: 4040083/F, 03/2003; PackageReference: J14; PackageDescription: 14-Pin Ceramic, Glass In-Line, Row Spacing 7.62 mm, Pitch 2.54 mm; Total Supply Voltage(Min)(+5V is 5, +/-5V is 10): 4; Mounting Technology: Through Hole; ComponentLink1Description: Manufacturer URL; ComponentLink1URL: http://www.ti.com/; ComponentLink2Description: Datasheet; ComponentLink2URL: http://www.ti.com/lit/ds/symlink/tle2144m.pdf; ComponentLink3Description: Package Specification; ComponentLink3URL: http://www.ti.com/litv/pdf/mcer002d
footprint TI-J14 (DIP, 14-Leads, Body 19.94x6.92mm, Row Spacing 7.62 mm, Pitch 2.54mm)
pins on every part: 4 VCC+ (power), 11 VCC- (power)
part A pins: 1 OUT1 (out), 2 IN1- (in), 3 IN1+ (in)
part B pins: 5 IN2+ (in), 6 IN2- (in), 7 OUT2 (out)
part C pins: 8 OUT3 (out), 9 IN3- (in), 10 IN3+ (in)
part D pins: 12 IN4+ (in), 13 IN4- (in), 14 OUT4 (out)

## 5962-9321606Q2A
designator U?
High Speed High Drive Precision Quad Operational Amplifier, 4 to 44 V, -55 to 125 degC, 20-pin LCC (FK20); Manufacturer: Texas Instruments; PartNumber: 5962-9321606Q2A; CMRR(Min)(dB): 85; GBW(Typ)(MHz): 5.8; IIB(Max)(pA): 2000000; Iq per channel(Max)(mA): 4.4; Number of Channels: 4; Offset Drift(Typ)(uV/C): 1.7; Packing: TUBE; Rating: Military; Slew Rate(Typ)(V/us): 45; Sub Family: High Output Current Amplifier (>=50mA), Precision Amplifier; Total Supply Voltage(Max)(+5V is 5, +/-5V is 10): 44; Vio (25C)(Max)(mV): 3; DatasheetVersion: SLOS183D; PackageVersion: 4040140/D, 01/2011; PackageReference: FK20; PackageDescription: 20-Pin Ceramic, Metal Chip Carrier, Body 8.89 x 8.89 mm, Pitch 1.27 mm; Total Supply Voltage(Min)(+5V is 5, +/-5V is 10): 4; Mounting Technology: Surface Mount; Code_JEDEC: MS-004; ComponentLink1Description: Manufacturer URL; ComponentLink1URL: http://www.ti.com/; ComponentLink2Description: Datasheet; ComponentLink2URL: http://www.ti.com/lit/ds/symlink/tle2144am.pdf; ComponentLink3Description: Package Specification; ComponentLink3URL: http://www.ti.com/litv/pdf/mlcc006d
footprint TI-FK20_N (Leadless Chip Carrier, 20-Leads, Body 8.9x8.9mm, Pitch 1.27mm, IPC Medium Density)
footprint TI-FK20_L (Leadless Chip Carrier, 20-Leads, Body 8.9x8.9mm, Pitch 1.27mm, IPC High Density)
footprint TI-FK20_M (Leadless Chip Carrier, 20-Leads, Body 8.9x8.9mm, Pitch 1.27mm, IPC Low Density)
part A pins: 2 OUT1 (out), 3 IN1- (in), 4 IN1+ (in)
part B pins: 8 IN2+ (in), 9 IN2- (in), 10 OUT2 (out)
part C pins: 12 OUT3 (out), 13 IN3- (in), 14 IN3+ (in)
part D pins: 18 IN4+ (in), 19 IN4- (in), 20 OUT4 (out)
part E pins: 1 NC, 5 NC, 6 VCC+ (power), 7 NC, 11 NC, 15 NC, 16 VCC- (power), 17 NC

## 5962-9321606QCA
designator U?
High Speed High Drive Precision Quad Operational Amplifier, 4 to 44 V, -55 to 125 degC, 14-pin DIP (J14); Manufacturer: Texas Instruments; PartNumber: 5962-9321606QCA; CMRR(Min)(dB): 85; GBW(Typ)(MHz): 5.8; IIB(Max)(pA): 2000000; Iq per channel(Max)(mA): 4.4; Number of Channels: 4; Offset Drift(Typ)(uV/C): 1.7; Packing: TUBE; Rating: Military; Slew Rate(Typ)(V/us): 45; Sub Family: High Output Current Amplifier (>=50mA), Precision Amplifier; Total Supply Voltage(Max)(+5V is 5, +/-5V is 10): 44; Vio (25C)(Max)(mV): 3; DatasheetVersion: SLOS183D; PackageVersion: 4040083/F, 03/2003; PackageReference: J14; PackageDescription: 14-Pin Ceramic, Glass In-Line, Row Spacing 7.62 mm, Pitch 2.54 mm; Total Supply Voltage(Min)(+5V is 5, +/-5V is 10): 4; Mounting Technology: Through Hole; ComponentLink1Description: Manufacturer URL; ComponentLink1URL: http://www.ti.com/; ComponentLink2Description: Datasheet; ComponentLink2URL: http://www.ti.com/lit/ds/symlink/tle2144am.pdf; ComponentLink3Description: Package Specification; ComponentLink3URL: http://www.ti.com/litv/pdf/mcer002d
footprint TI-J14 (DIP, 14-Leads, Body 19.94x6.92mm, Row Spacing 7.62 mm, Pitch 2.54mm)
pins on every part: 4 VCC+ (power), 11 VCC- (power)
part A pins: 1 OUT1 (out), 2 IN1- (in), 3 IN1+ (in)
part B pins: 5 IN2+ (in), 6 IN2- (in), 7 OUT2 (out)
part C pins: 8 OUT3 (out), 9 IN3- (in), 10 IN3+ (in)
part D pins: 12 IN4+ (in), 13 IN4- (in), 14 OUT4 (out)

## 5962-9460201Q2A
designator U?
JFET-Input High Speed Low Noise Single Operational Amplifier, 4.5 to 38 V, -55 to 125 degC, 20-pin LCC (FK20); Manufacturer: Texas Instruments; PartNumber: 5962-9460201Q2A; CMRR(Min)(dB): 70; GBW(Typ)(MHz): 9.4; IIB(Max)(pA): 175; Iq per channel(Max)(mA): 2.2; Number of Channels: 1; Offset Drift(Typ)(uV/C): 3.2; Packing: TUBE; Rating: Military; Slew Rate(Typ)(V/us): 35; Sub Family: High Output Current Amplifier (>=50mA), High Supply Voltage Amplifier (>=30V), Precision Amplifier; Total Supply Voltage(Max)(+5V is 5, +/-5V is 10): 38; Total Supply Voltage(Min)(+5V is 5, +/-5V is 10): 4.5; Vio (25C)(Max)(mV): 4; DatasheetVersion: SLOS181C; PackageVersion: 4040140/D, 01/2011; PackageReference: FK20; PackageDescription: 20-Pin Ceramic, Metal Chip Carrier, Body 8.89 x 8.89 mm, Pitch 1.27 mm; Mounting Technology: Surface Mount; Code_JEDEC: MS-004; ComponentLink1Description: Manufacturer URL; ComponentLink1URL: http://www.ti.com/; ComponentLink2Description: Datasheet; ComponentLink2URL: http://www.ti.com/lit/ds/symlink/tle2071m.pdf; ComponentLink3Description: Package Specification; ComponentLink3URL: http://www.ti.com/litv/pdf/mlcc006d
footprint TI-FK20_N (Leadless Chip Carrier, 20-Leads, Body 8.9x8.9mm, Pitch 1.27mm, IPC Medium Density)
footprint TI-FK20_L (Leadless Chip Carrier, 20-Leads, Body 8.9x8.9mm, Pitch 1.27mm, IPC High Density)
footprint TI-FK20_M (Leadless Chip Carrier, 20-Leads, Body 8.9x8.9mm, Pitch 1.27mm, IPC Low Density)
part A pins: 2 OFFSET N1 (in), 5 IN- (in), 7 IN+ (in), 10 VCC- (power), 12 OFFSET N2 (in), 15 OUT (out), 17 VCC+ (power)
part B pins: 1 NC, 3 NC, 4 NC, 6 NC, 8 NC, 9 NC, 11 NC, 13 NC, 14 NC, 16 NC, 18 NC, 19 NC, 20 NC

## 5962-9460201QPA
designator U?
JFET-Input High Speed Low Noise Single Operational Amplifier, 4.5 to 38 V, -55 to 125 degC, 8-pin DIP (JG8); Manufacturer: Texas Instruments; PartNumber: 5962-9460201QPA; CMRR(Min)(dB): 70; GBW(Typ)(MHz): 9.4; IIB(Max)(pA): 175; Iq per channel(Max)(mA): 2.2; Number of Channels: 1; Offset Drift(Typ)(uV/C): 3.2; Packing: TUBE; Rating: Military; Slew Rate(Typ)(V/us): 35; Sub Family: High Output Current Amplifier (>=50mA), High Supply Voltage Amplifier (>=30V), Precision Amplifier; Total Supply Voltage(Max)(+5V is 5, +/-5V is 10): 38; Total Supply Voltage(Min)(+5V is 5, +/-5V is 10): 4.5; Vio (25C)(Max)(mV): 4; DatasheetVersion: SLOS181C; PackageVersion: 4040107/C, 08/1996; PackageReference: JG8; PackageDescription: 8-Pin Ceramic, Glass In-Line, Body 9.58 x 6.665 mm, Pitch 2.54 mm; Mounting Technology: Through Hole; ComponentLink1Description: Manufacturer URL; ComponentLink1URL: http://www.ti.com/; ComponentLink2Description: Datasheet; ComponentLink2URL: http://www.ti.com/lit/ds/symlink/tle2071m.pdf; ComponentLink3Description: Package Specification; ComponentLink3URL: http://www.ti.com/litv/pdf/mcer001a
footprint TI-JG8 (DIP, 8-Leads, Body 10.15x7.1mm, Pitch 2.54mm)
pins: 1 OFFSET N1 (in), 2 IN- (in), 3 IN+ (in), 4 VCC- (power), 5 OFFSET N2 (in), 6 OUT (out), 7 VCC+ (power), 8 NC

## 5962-9460202Q2A
designator U?
JFET-Input High Speed Low Noise Dual Operational Amplifier, 4.5 to 38 V, -55 to 125 degC, 20-pin LCC (FK20); Manufacturer: Texas Instruments; PartNumber: 5962-9460202Q2A; CMRR(Min)(dB): 70; GBW(Typ)(MHz): 9.4; IIB(Max)(pA): 175; Iq per channel(Max)(mA): 1.8; Number of Channels: 2; Offset Drift(Typ)(uV/C): 2.3; Packing: TUBE; Rating: Military; Slew Rate(Typ)(V/us): 35; Sub Family: High Output Current Amplifier (>=50mA), High Supply Voltage Amplifier (>=30V), Precision Amplifier; Total Supply Voltage(Max)(+5V is 5, +/-5V is 10): 38; Total Supply Voltage(Min)(+5V is 5, +/-5V is 10): 4.5; Vio (25C)(Max)(mV): 6; DatasheetVersion: SLOS181C; PackageVersion: 4040140/D, 01/2011; PackageReference: FK20; PackageDescription: 20-Pin Ceramic, Metal Chip Carrier, Body 8.89 x 8.89 mm, Pitch 1.27 mm; Mounting Technology: Surface Mount; Code_JEDEC: MS-004; ComponentLink1Description: Manufacturer URL; ComponentLink1URL: http://www.ti.com/; ComponentLink2Description: Datasheet; ComponentLink2URL: http://www.ti.com/lit/ds/symlink/tle2072m.pdf; ComponentLink3Description: Package Specification; ComponentLink3URL: http://www.ti.com/litv/pdf/mlcc006d
footprint TI-FK20_N (Leadless Chip Carrier, 20-Leads, Body 8.9x8.9mm, Pitch 1.27mm, IPC Medium Density)
footprint TI-FK20_L (Leadless Chip Carrier, 20-Leads, Body 8.9x8.9mm, Pitch 1.27mm, IPC High Density)
footprint TI-FK20_M (Leadless Chip Carrier, 20-Leads, Body 8.9x8.9mm, Pitch 1.27mm, IPC Low Density)
part A pins: 2 OUT1 (out), 5 IN1- (in), 7 IN1+ (in)
part B pins: 12 IN2+ (in), 15 IN2- (in), 17 OUT2 (out)
part C pins: 1 NC, 3 NC, 4 NC, 6 NC, 8 NC, 9 NC, 10 VCC- (power), 11 NC, 13 NC, 14 NC, 16 NC, 18 NC, 19 NC, 20 VCC+ (power)

## 5962-9460202QPA
designator U?
JFET-Input High Speed Low Noise Dual Operational Amplifier, 4.5 to 38 V, -55 to 125 degC, 8-pin DIP (JG8); Manufacturer: Texas Instruments; PartNumber: 5962-9460202QPA; CMRR(Min)(dB): 70; GBW(Typ)(MHz): 9.4; IIB(Max)(pA): 175; Iq per channel(Max)(mA): 1.8; Number of Channels: 2; Offset Drift(Typ)(uV/C): 2.3; Packing: TUBE; Rating: Military; Slew Rate(Typ)(V/us): 35; Sub Family: High Output Current Amplifier (>=50mA), High Supply Voltage Amplifier (>=30V), Precision Amplifier; Total Supply Voltage(Max)(+5V is 5, +/-5V is 10): 38; Total Supply Voltage(Min)(+5V is 5, +/-5V is 10): 4.5; Vio (25C)(Max)(mV): 6; DatasheetVersion: SLOS181C; PackageVersion: 4040107/C, 08/1996; PackageReference: JG8; PackageDescription: 8-Pin Ceramic, Glass In-Line, Body 9.58 x 6.665 mm, Pitch 2.54 mm; Mounting Technology: Through Hole; ComponentLink1Description: Manufacturer URL; ComponentLink1URL: http://www.ti.com/; ComponentLink2Description: Datasheet; ComponentLink2URL: http://www.ti.com/lit/ds/symlink/tle2072m.pdf; ComponentLink3Description: Package Specification; ComponentLink3URL: http://www.ti.com/litv/pdf/mcer001a
footprint TI-JG8 (DIP, 8-Leads, Body 10.15x7.1mm, Pitch 2.54mm)
pins on every part: 4 VCC- (power), 8 VCC+ (power)
part A pins: 1 OUT1 (out), 2 IN1- (in), 3 IN1+ (in)
part B pins: 5 IN2+ (in), 6 IN2- (in), 7 OUT2 (out)

## 5962-9460203Q2A
designator U?
JFET-Input High Speed Low Noise Quad Operational Amplifier, 4.5 to 38 V, -55 to 125 degC, 20-pin LCC (FK20); Manufacturer: Texas Instruments; PartNumber: 5962-9460203Q2A; CMRR(Min)(dB): 70; GBW(Typ)(MHz): 9.4; IIB(Max)(pA): 175; Iq per channel(Max)(mA): 1.875; Number of Channels: 4; Offset Drift(Typ)(uV/C): 10.1; Packing: TUBE; Rating: Military; Slew Rate(Typ)(V/us): 35; Sub Family: High Output Current Amplifier (>=50mA), High Supply Voltage Amplifier (>=30V), Precision Amplifier; Total Supply Voltage(Max)(+5V is 5, +/-5V is 10): 38; Total Supply Voltage(Min)(+5V is 5, +/-5V is 10): 4.5; Vio (25C)(Max)(mV): 5; DatasheetVersion: SLOS181C; PackageVersion: 4040140/D, 01/2011; PackageReference: FK20; PackageDescription: 20-Pin Ceramic, Metal Chip Carrier, Body 8.89 x 8.89 mm, Pitch 1.27 mm; Mounting Technology: Surface Mount; Code_JEDEC: MS-004; ComponentLink1Description: Manufacturer URL; ComponentLink1URL: http://www.ti.com/; ComponentLink2Description: Datasheet; ComponentLink2URL: http://www.ti.com/lit/ds/symlink/tle2074m.pdf; ComponentLink3Description: Package Specification; ComponentLink3URL: http://www.ti.com/litv/pdf/mlcc006d
footprint TI-FK20_N (Leadless Chip Carrier, 20-Leads, Body 8.9x8.9mm, Pitch 1.27mm, IPC Medium Density)
footprint TI-FK20_L (Leadless Chip Carrier, 20-Leads, Body 8.9x8.9mm, Pitch 1.27mm, IPC High Density)
footprint TI-FK20_M (Leadless Chip Carrier, 20-Leads, Body 8.9x8.9mm, Pitch 1.27mm, IPC Low Density)
part A pins: 2 OUT1 (out), 3 IN1- (in), 4 IN1+ (in)
part B pins: 8 IN2+ (in), 9 IN2- (in), 10 OUT2 (out)
part C pins: 12 OUT3 (out), 13 IN3- (in), 14 IN3+ (in)
part D pins: 18 IN4+ (in), 19 IN4- (in), 20 OUT4 (out)
part E pins: 1 NC, 5 NC, 6 VCC+ (power), 7 NC, 11 NC, 15 NC, 16 VCC- (power), 17 NC

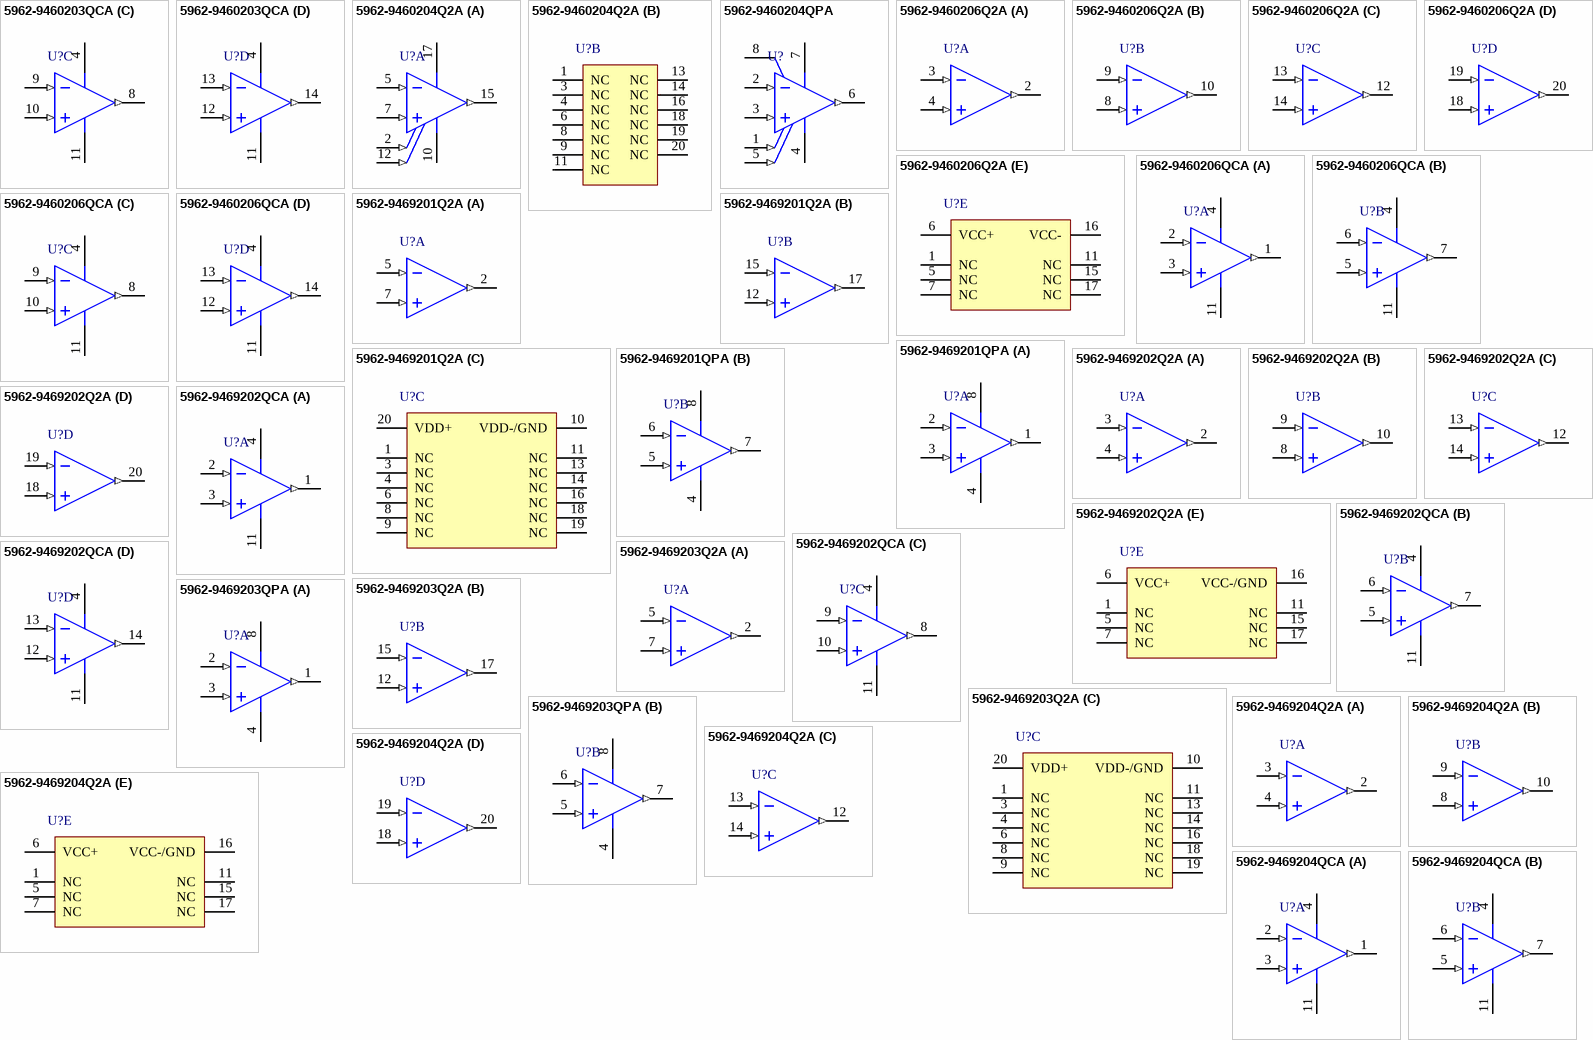
[diagram p4: symbols 5962-9460203QCA to 5962-9469204QCA]

## 5962-9460203QCA
designator U?
JFET-Input High Speed Low Noise Quad Operational Amplifier, 4.5 to 38 V, -55 to 125 degC, 14-pin DIP (J14); Manufacturer: Texas Instruments; PartNumber: 5962-9460203QCA; CMRR(Min)(dB): 70; GBW(Typ)(MHz): 9.4; IIB(Max)(pA): 175; Iq per channel(Max)(mA): 1.875; Number of Channels: 4; Offset Drift(Typ)(uV/C): 10.1; Packing: TUBE; Rating: Military; Slew Rate(Typ)(V/us): 35; Sub Family: High Output Current Amplifier (>=50mA), High Supply Voltage Amplifier (>=30V), Precision Amplifier; Total Supply Voltage(Max)(+5V is 5, +/-5V is 10): 38; Total Supply Voltage(Min)(+5V is 5, +/-5V is 10): 4.5; Vio (25C)(Max)(mV): 5; DatasheetVersion: SLOS181C; PackageVersion: 4040083/F, 03/2003; PackageReference: J14; PackageDescription: 14-Pin Ceramic, Glass In-Line, Row Spacing 7.62 mm, Pitch 2.54 mm; Mounting Technology: Through Hole; ComponentLink1Description: Manufacturer URL; ComponentLink1URL: http://www.ti.com/; ComponentLink2Description: Datasheet; ComponentLink2URL: http://www.ti.com/lit/ds/symlink/tle2074m.pdf; ComponentLink3Description: Package Specification; ComponentLink3URL: http://www.ti.com/litv/pdf/mcer002d
footprint TI-J14 (DIP, 14-Leads, Body 19.94x6.92mm, Row Spacing 7.62 mm, Pitch 2.54mm)
pins on every part: 4 VCC+ (power), 11 VCC- (power)
part A pins: 1 OUT1 (out), 2 IN1- (in), 3 IN1+ (in)
part B pins: 5 IN2+ (in), 6 IN2- (in), 7 OUT2 (out)
part C pins: 8 OUT3 (out), 9 IN3- (in), 10 IN3+ (in)
part D pins: 12 IN4+ (in), 13 IN4- (in), 14 OUT4 (out)